# Altium footprint library HAKATAYA.PcbLib: 227 footprints (part 10 of 15)
Each footprint in its own frame and in the unit in brackets; x right, y up, seen from the top. Pads: shape width x height; smd on the part's side, far side on the other; paste and mask are expansions set on the pad; w line width, h text height; cw(c..) or ccw(c..) is an arc to the next point about the centre after c.
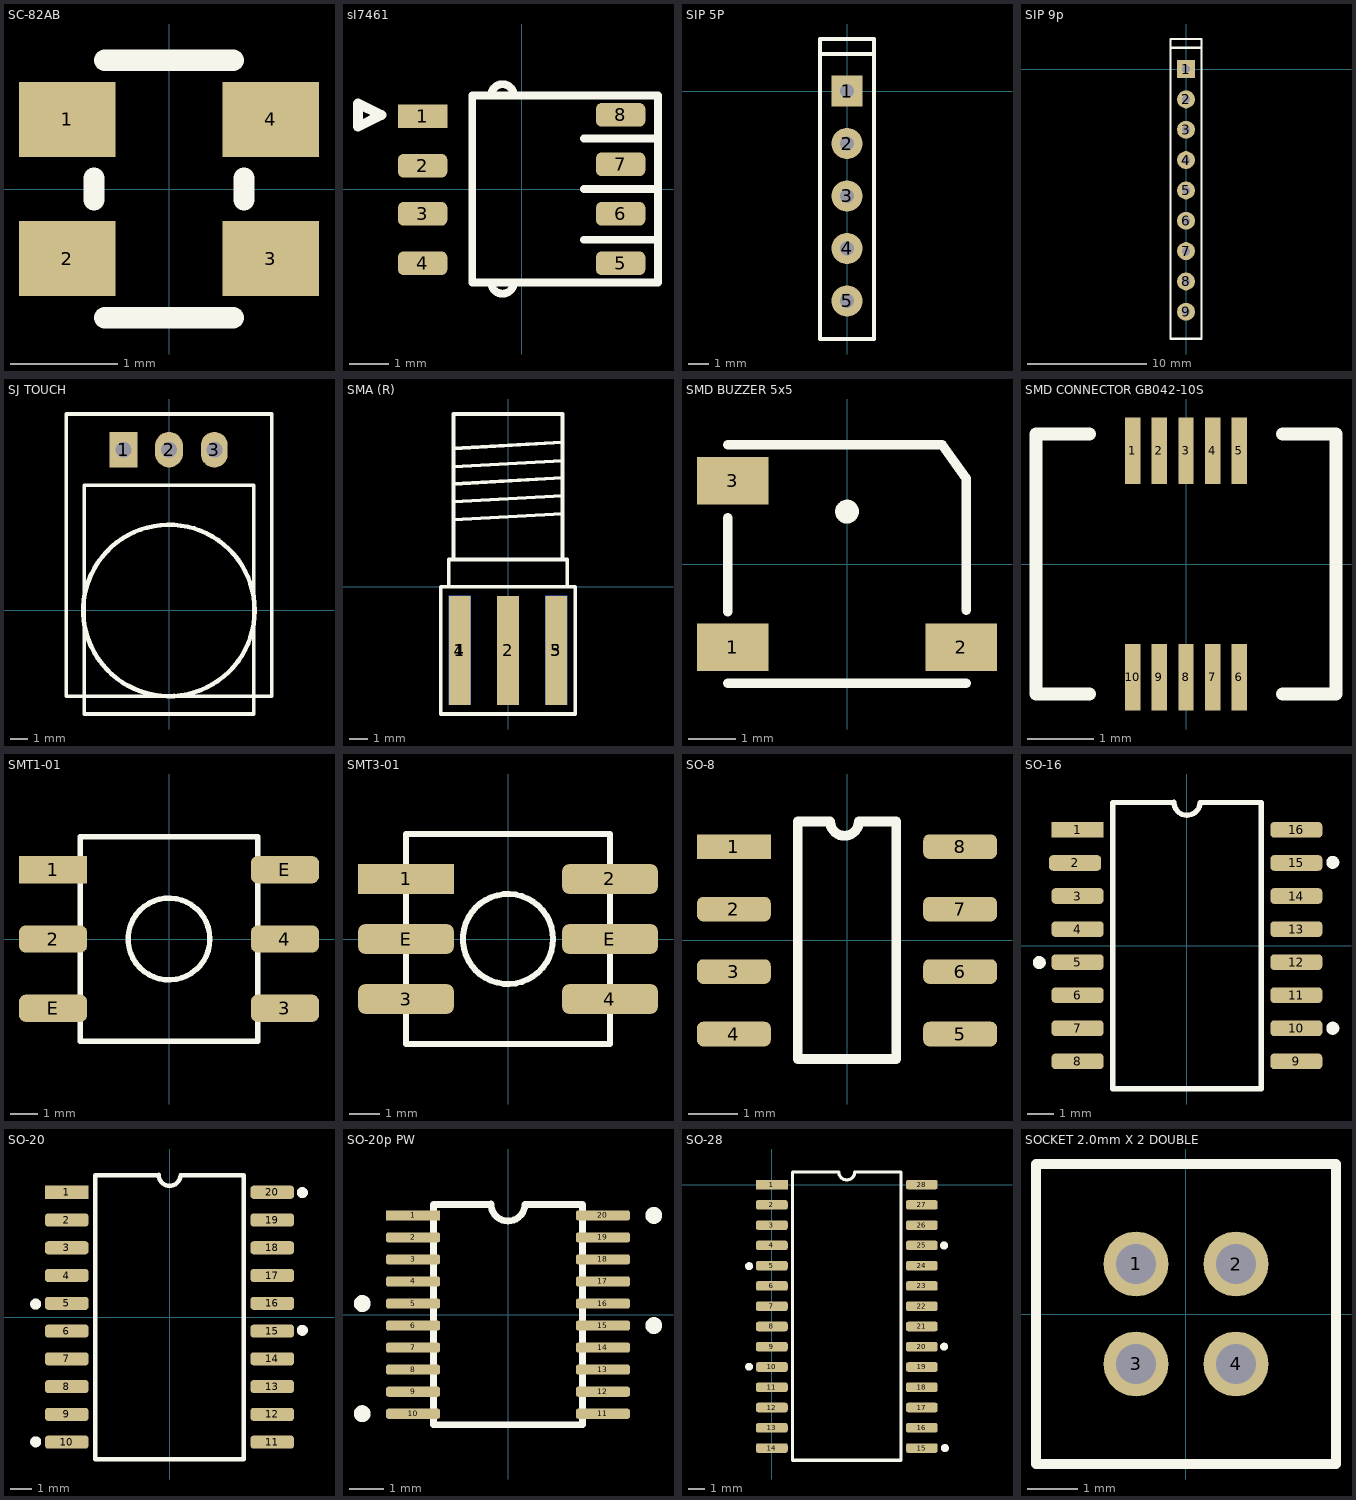
[diagram p9: the footprints below, top view; thin cyan lines are the x and y axes]

## SC-82AB [mm] "Pitch 1.3mm"
height 1
pads (4):
  rect 0.9x0.7 smd: 1(-0.95,0.65) 2(-0.95,-0.65) 3(0.95,-0.65) 4(0.95,0.65)
Top Overlay:
  lines w0.2: -0.7,-0.1 -0.7,0.1 ; -0.6,-1.2 0.6,-1.2 ; -0.6,1.2 0.6,1.2 ; 0.7,-0.1 0.7,0.1

## sI7461 [mm]
height 1.04
pads (8):
  rect 1.27x0.61 smd: 1(-2.54,1.87)
  rrect50% 1.27x0.61 smd: 2(-2.54,0.6) 3(-2.54,-0.635) 4(-2.54,-1.905) 5(2.54,-1.905) 6(2.54,-0.635) 7(2.54,0.635) 8(2.54,1.905)
Top Overlay:
  lines w0.2: -0.783,-2.396 ccw(c-0.491,-2.396) -0.2,-2.4 ; -0.783,2.4 cw(c-0.491,2.4) -0.2,2.4 ; 1.6,-1.3 3.5,-1.3 ; 1.6,0 3.5,0 ; 1.6,1.3 3.5,1.3 ; 3.5,2.378 3.5,-2.4 -1.27,-2.4 -1.27,2.4 3.5,2.4
  lines w0.254: -4.2,1.6 -4.2,2.2 -3.6,1.9 -4.2,1.6

## SIP 5P [mm] "Single inline pitch=2.54"
pads (5):
  rect 1.5x1.5 hole 0.7: 1(0,0)
  round 1.5 hole 0.7: 2(0,-2.54) 3(0,-5.08) 4(0,-7.62) 5(0,-10.16)
Top Overlay:
  lines w0.2: -1.3,1.8 1.3,1.8 ; -1.3,2.5 -1.3,-12 1.3,-12 1.3,2.517 -1.3,2.517

## SIP 9p [mm] "Single inline pitch=2.54"
height 5
pads (9):
  rect 1.5x1.5 hole 0.7: 1(0,0)
  round 1.5 hole 0.7: 2(0,-2.54) 3(0,-5.08) 4(0,-7.62) 5(0,-10.16) 6(0,-12.7) 7(0,-15.24) 8(0,-17.78) 9(0,-20.32)
Top Overlay:
  lines w0.2: -1.3,-22.6 -1.3,2.5 ; -1.3,-22.583 1.3,-22.583 1.3,2.517 -1.3,2.517 ; -1.3,1.8 1.3,1.8

## SJ TOUCH [mm]
pads (3):
  rect 1.575x2 hole 0.89: 1(-2.54,9)
  oval 1.575x2 hole 0.89: 2(0,9)
  oval 1.5x2 hole 0.89: 3(2.54,9)
Top Overlay:
  circle w0.254: c0,0 r4.801
  lines w0.2: -5.75,-4.8 5.75,-4.8 5.75,11 -5.75,11 -5.75,-4.8 ; -4.75,-5.8 -4.75,7 4.75,7 4.75,-5.8 -4.75,-5.8

## SMA (R) [mm] "1/4 36UNS-2A"
height 6.5
pads (5):
  rect 1.2x6 smd: 1(-2.65,-3.5) 2(0,-3.5) 3(2.65,-3.5)
  rect 1.2x6 smd far side: 4(-2.65,-3.5) 5(2.65,-3.5)
Top Overlay:
  lines w0.2: -3.25,0 -3.25,1.5 3.25,1.5 3.25,0 ; -3,1.5 -3,9.5 3,9.5 3,1.5 ; -3,3.675 3.011,4.012 ; -3,4.675 3.011,5.012 ; -3,5.65 3.011,5.987 ; -3,6.6 2.999,6.936 ; -3,7.6 2.995,7.936 3,7.925 ; -3.7,-7 3.7,-7 3.7,0 -3.7,0 -3.7,-7

## SMD BUZZER 5x5 [mm] "RUIDA ELEC. 5x5x2"
height 1.9
pads (3):
  rect 1.5x1 smd: 1(-2.4,-1.75) 2(2.4,-1.75) 3(-2.4,1.75)
Top Overlay:
  circle w0.25: c0,1.1 r0.125
  lines w0.2: -2.5,-2.5 2.5,-2.5 ; -2.5,-1 -2.5,0.975 ; -2.5,2.5 2,2.5 2.5,1.8 2.5,-0.975

## SMD CONNECTOR GB042-10S [mm] "GB042 RECEPTACLE"
height 1
pads (10):
  rect 0.23x1 smd: 1(-0.8,1.7) 2(-0.4,1.7) 3(0,1.7) 4(0.4,1.7) 5(0.8,1.7) 6(0.8,-1.7) 7(0.4,-1.7) 8(0,-1.7) 9(-0.4,-1.7) 10(-0.8,-1.7)
Top Overlay:
  lines w0.2: -1.45,-1.95 -2.25,-1.95 -2.25,1.95 -1.45,1.95 ; 1.45,-1.95 2.25,-1.95 2.25,1.95 1.45,1.95

## SMT1-01 [mm] "FUJISOKU SMT1-01"
height 4.2
pads (6):
  rect 2.5x1 smd: 1(-4.25,2.54)
  rrect50% 2.5x1 smd: 2(-4.25,0) 3(4.25,-2.54) 4(4.25,0) E(-4.25,-2.54) E(4.25,2.54)
Top Overlay:
  circle w0.2: c0,0 r1.5
  lines w0.2: -3.25,-3.75 -3.25,3.75 3.25,3.75 3.25,-3.75 -3.25,-3.75

## SMT3-01 [mm] "FUJISOKU SMT3-01"
height 3.8
pads (6):
  rect 3.2x1 smd: 1(-3.4,2)
  rrect50% 3.2x1 smd: 2(3.4,2) 3(-3.4,-2) 4(3.4,-2) E(-3.4,0) E(3.4,0)
Top Overlay:
  circle w0.2: c0,0 r1.5
  lines w0.2: -3.4,-3.5 -3.4,3.5 3.4,3.5 3.4,-3.5 -3.4,-3.5

## SO-8 [mm] "MC34063_ST"
height 1.75
pads (8):
  rect 1.5x0.5 smd: 1(-2.3,1.905)
  rrect50% 1.5x0.5 smd: 2(-2.3,0.635) 3(-2.3,-0.635) 4(-2.3,-1.905) 5(2.3,-1.905) 6(2.3,-0.635) 7(2.3,0.635) 8(2.3,1.905)
Top Overlay:
  lines w0.2: -0.344,2.413 -1,2.413 -1,-2.413 1,-2.413 1,2.413 0.24,2.413 cw(c-0.051,2.417) -0.343,2.417

## SO-16 [mm] "SOP Pitch1.27, 20Pin, W=5.7mm"
pads (16):
  rect 2x0.6 smd: 1(-4.2,4.445)
  rrect50% 2x0.6 smd: 2(-4.3,3.175) 3(-4.2,1.905) 4(-4.2,0.635) 5(-4.2,-0.635) 6(-4.2,-1.905) 7(-4.2,-3.175) 8(-4.2,-4.445) 9(4.2,-4.445) 10(4.2,-3.175) 11(4.2,-1.905) 12(4.2,-0.635) 13(4.2,0.635) 14(4.2,1.905) 15(4.2,3.175) 16(4.2,4.445)
Top Overlay:
  circle w0.25: c-5.675,-0.65 r0.125
  circle w0.25: c5.6,-3.175 r0.125
  circle w0.25: c5.6,3.2 r0.125
  lines w0.2: -0.5,5.5 -2.85,5.5 -2.85,-5.5 2.85,-5.5 2.85,5.5 0.5,5.5 cw(c0,5.507) -0.5,5.507

## SO-20 [mm] "SOP Pitch1.27, 20Pin, W=7.4mm"
pads (20):
  rect 2x0.6 smd: 1(-4.7,5.715)
  rrect50% 2x0.6 smd: 2(-4.7,4.445) 3(-4.7,3.175) 4(-4.7,1.905) 5(-4.7,0.635) 6(-4.7,-0.635) 7(-4.7,-1.905) 8(-4.7,-3.175) 9(-4.7,-4.445) 10(-4.7,-5.715) 11(4.7,-5.715) 12(4.7,-4.445) 13(4.7,-3.175) 14(4.7,-1.905) 15(4.7,-0.635) 16(4.7,0.635) 17(4.7,1.905) 18(4.7,3.175) 19(4.7,4.445) 20(4.7,5.715)
Top Overlay:
  circle w0.25: c-6.125,0.6 r0.125
  circle w0.25: c-6.125,-5.7 r0.125
  circle w0.25: c6.075,-0.6 r0.125
  circle w0.25: c6.075,5.7 r0.125
  lines w0.2: -0.5,6.5 -3.4,6.5 -3.4,-6.5 3.4,-6.5 3.4,6.5 0.5,6.5 cw(c0,6.507) -0.5,6.507

## SO-20p PW [mm]
pads (20):
  rect 1.6x0.3 smd: 1(-2.8,2.925)
  rrect50% 1.6x0.3 smd: 2(-2.8,2.275) 3(-2.8,1.625) 4(-2.8,0.975) 5(-2.8,0.325) 6(-2.8,-0.325) 7(-2.8,-0.975) 8(-2.8,-1.625) 9(-2.8,-2.275) 10(-2.8,-2.925) 11(2.8,-2.925) 12(2.8,-2.275) 13(2.8,-1.625) 14(2.8,-0.975) 15(2.8,-0.325) 16(2.8,0.325) 17(2.8,0.975) 18(2.8,1.625) 19(2.8,2.275) 20(2.8,2.925)
Top Overlay:
  circle w0.25: c4.3,-0.325 r0.125
  circle w0.25: c4.3,2.925 r0.125
  circle w0.25: c-4.3,0.325 r0.125
  circle w0.25: c-4.3,-2.925 r0.125
  lines w0.2: -0.5,3.25 -2.2,3.25 -2.2,-3.25 2.2,-3.25 2.2,3.25 0.5,3.25 cw(c0,3.257) -0.5,3.257

## SO-28 [mm] "Plastic Small Outline (SOIC) (7.50 mm)"
pads (28):
  rect 2x0.6 smd: 1(0,0)
  rrect50% 2x0.6 smd: 2(0,-1.27) 3(0,-2.54) 4(0,-3.81) 5(0,-5.08) 6(0,-6.35) 7(0,-7.62) 8(0,-8.89) 9(0,-10.16) 10(0,-11.43) 11(0,-12.7) 12(0,-13.97) 13(0,-15.24) 14(0,-16.51) 15(9.4,-16.51) 16(9.4,-15.24) 17(9.4,-13.97) 18(9.4,-12.7) 19(9.4,-11.43) 20(9.4,-10.16) 21(9.4,-8.89) 22(9.4,-7.62) 23(9.4,-6.35) 24(9.4,-5.08) 25(9.4,-3.81) 26(9.4,-2.54) 27(9.4,-1.27) 28(9.4,0)
Top Overlay:
  circle w0.25: c10.85,-16.51 r0.125
  circle w0.25: c10.8,-3.81 r0.125
  circle w0.25: c10.8,-10.16 r0.125
  circle w0.25: c-1.425,-11.415 r0.125
  circle w0.25: c-1.425,-5.115 r0.125
  lines w0.2: 4.2,0.785 1.3,0.785 1.3,-17.272 8.1,-17.272 8.1,0.785 5.2,0.785 cw(c4.7,0.792) 4.2,0.792

## SOCKET 2.0mm X 2 DOUBLE [mm]
pads (4):
  round 1.3 hole 0.8: 1(-1,1) 2(1,1) 3(-1,-1) 4(1,-1)
Top Overlay:
  lines w0.2: -3,-3 3,-3 3,3 -3,3 -3,-3